# EAGLE library part 6_POS_XH_DEV (library Blizzard_Library)
6 Postion JST XH
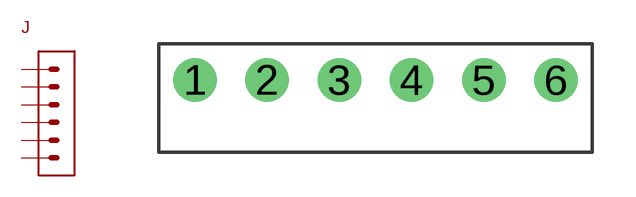
[diagram p12: symbol with the pads of 6_POS_XH_PKG; footprint 6_POS_XH_PKG]

Designator prefix J

## 6_POS_XH_DEV  [6_POS_XH_PKG]
1  1
2  2
3  3
4  4
5  5
6  6

## Footprint 6_POS_XH_PKG (pad centres in mm)
6 Position XH JST
drill 1: 1 -6.25,0; 2 -3.75,0; 3 -1.25,0; 4 1.25,0; 5 3.75,0; 6 6.25,0